# EAGLE library part MMPQ2222A (library jack_semi)
Quad 500mA 40v NPN transistor package https://www.mouser.com/productdetail/on-semiconductor-fairchild/mmpq2222a?qs=sGAEpiMZZMshyDBzk1%2FWi8oN7VHZ91Okw9HzP%2FjA8dg%3D
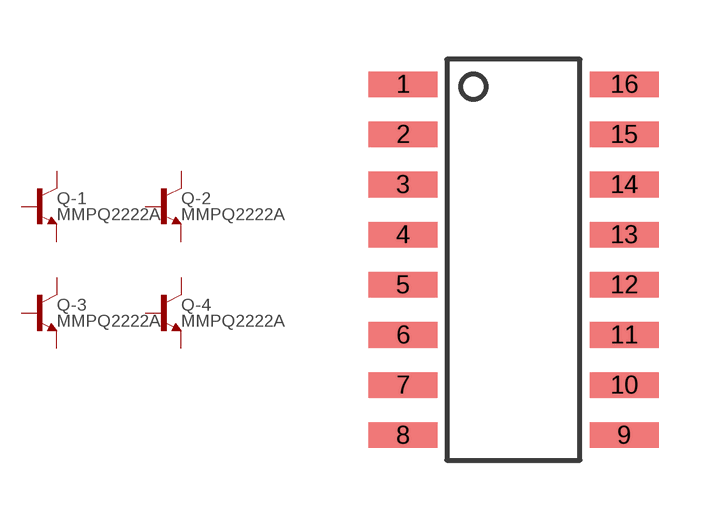
[diagram p0: symbol with the pads of SOIC_16; footprint SOIC_16]

Designator prefix Q; gates -1=NPN -2=NPN -3=NPN -4=NPN

## MMPQ2222A  [SOIC_16]
1  -1:C  pas
2  -1:C  pas
3  -2:C  pas
4  -2:C  pas
5  -3:C  pas
6  -3:C  pas
7  -4:C  pas
8  -4:C  pas
9  -4:B  pas
10  -4:E  pas
11  -3:B  pas
12  -3:E  pas
13  -2:B  pas
14  -2:E  pas
15  -1:B  pas
16  -1:E  pas

## Footprint SOIC_16 (pad centres in mm)
smd 1.75 x 0.65: 1 -2.8,4.445; 2 -2.8,3.175; 3 -2.8,1.905; 4 -2.8,0.635; 5 -2.8,-0.635; 6 -2.8,-1.905; 7 -2.8,-3.175; 8 -2.8,-4.445; 9 2.8,-4.445; 10 2.8,-3.175; 11 2.8,-1.905; 12 2.8,-0.635; 13 2.8,0.635; 14 2.8,1.905; 15 2.8,3.175; 16 2.8,4.445